# Altium footprint library SamacSys.PcbLib: 27 footprints (part 1 of 2)
Each footprint in its own frame and in the unit in brackets; x right, y up, seen from the top. Pads: shape width x height; smd on the part's side, far side on the other; paste and mask are expansions set on the pad; w line width, h text height; cw(c..) or ccw(c..) is an arc to the next point about the centre after c.
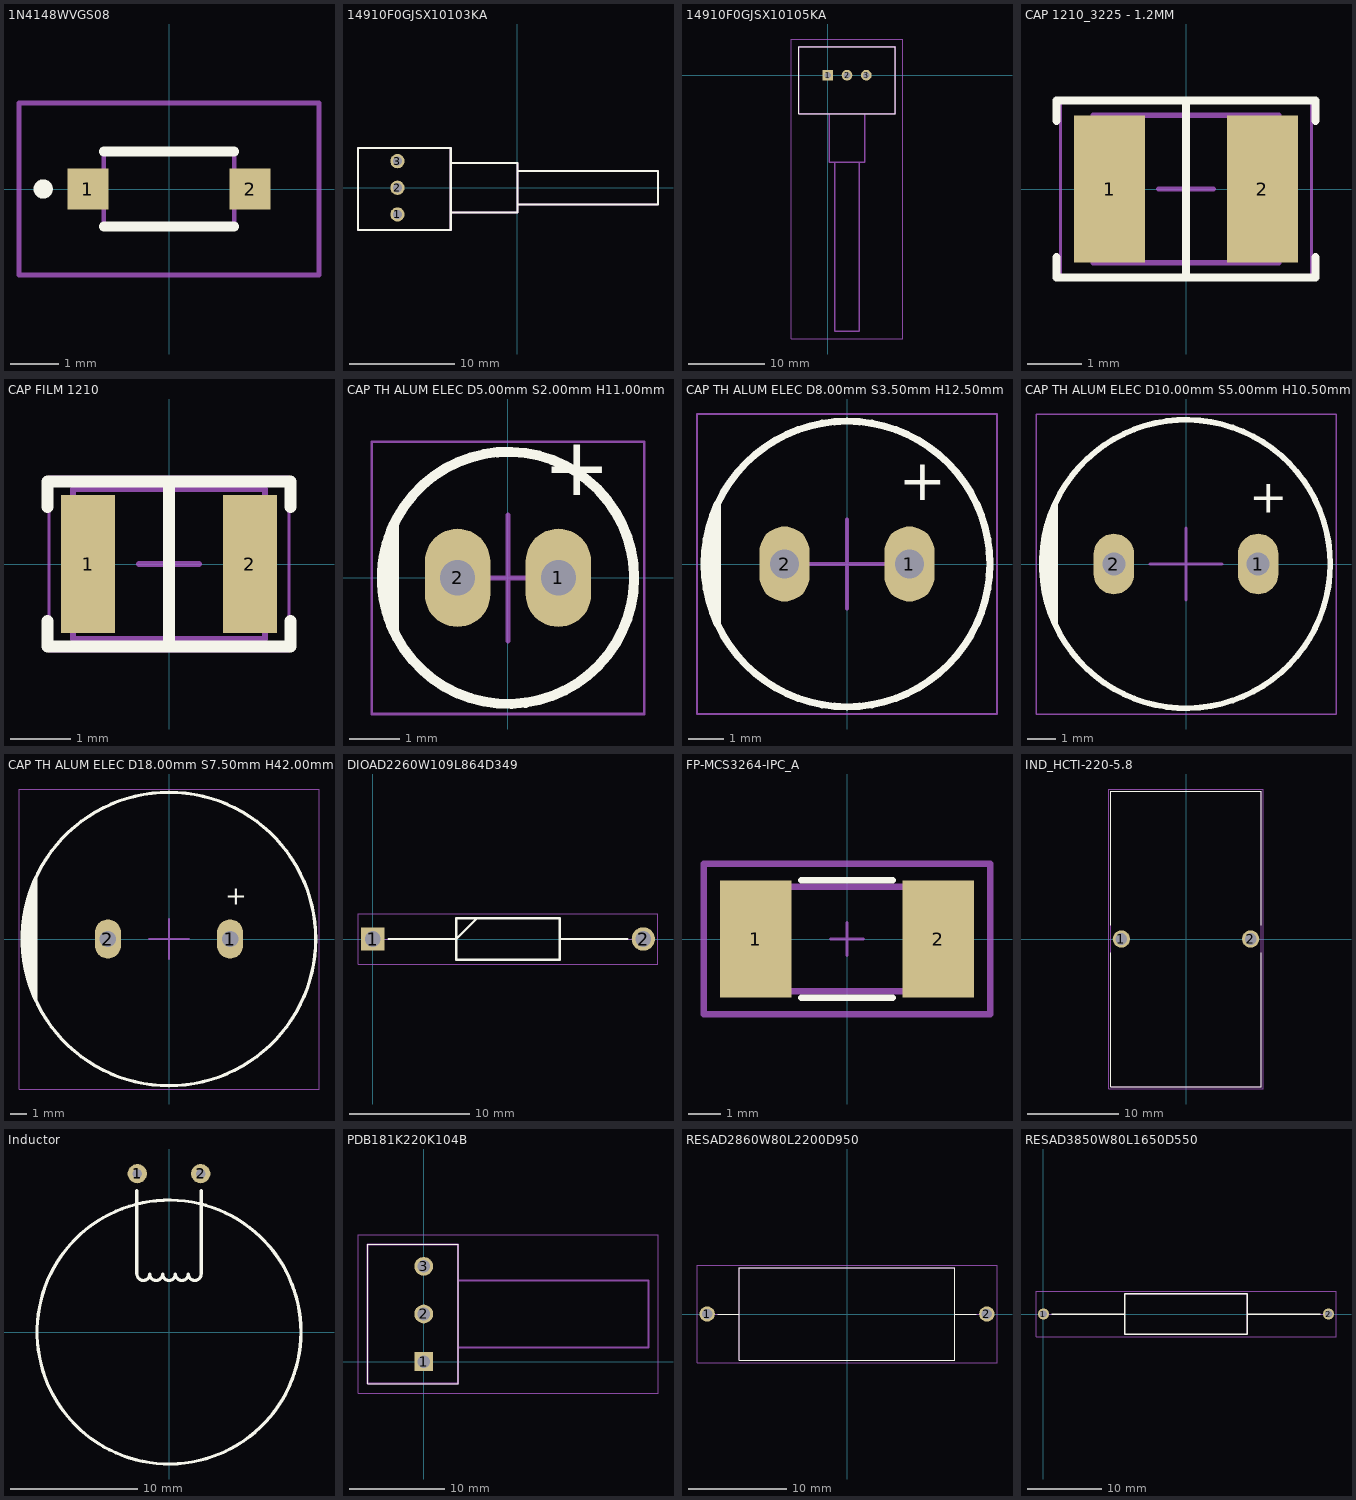
[diagram p0: the footprints below, top view; thin cyan lines are the x and y axes]

## 1N4148WVGS08 [mm]
pads (2):
  rect 0.85x0.85 smd: 1(-1.675,0) 2(1.675,0)
Top Overlay:
  lines w0.2: -1.35,-0.775 1.35,-0.775 ; -1.35,0.775 1.35,0.775 ; -2.6,-0.1 cw(c-2.6,0) -2.6,0.1 cw(c-2.6,0) -2.6,-0.1
Mechanical 13:
  lines w0.1: -1.35,-0.775 1.35,-0.775 1.35,0.775 -1.35,0.775 -1.35,-0.775
Mechanical 15:
  lines w0.1: -3.1,-1.775 3.1,-1.775 3.1,1.775 -3.1,1.775 -3.1,-1.775
3D body "1N4148W-V-GS08.stp": height 1.26, standoff 0, extent -1.854,-0.775 1.854,0.775

## 14910F0GJSX10103KA [mm]
pads (3):
  round 1.37 hole 0.87: 1(-11.42,-2.54) 2(-11.42,0) 3(-11.42,2.54)
Top Overlay:
  lines w0.2: -6.35,-2.35 0,-2.35 0,2.35 -6.35,2.35 ; 0,-1.585 13.395,-1.585 13.395,1.585 0,1.585 ; -15.18,-4.018 -6.35,-4.018 -6.35,3.786 -15.18,3.786 -15.18,-4.018
Mechanical 13:
  lines w0.2: -6.35,-2.35 0,-2.35 0,2.35 -6.35,2.35 ; 0,-1.585 13.395,-1.585 13.395,1.585 0,1.585 ; -15.18,-4.018 -15.18,3.786 -6.35,3.786 -6.35,-4.018 -15.18,-4.018
3D body "14910A0BHSX10502KA.stp": height 13.14, standoff -8.81, extent -15.182,-6.26 9.698,6.24

## 14910F0GJSX10105KA [mm]
pads (3):
  rect 1.414x1.414 hole 0.87: 1(0,0)
  round 1.414 hole 0.87: 2(2.54,0) 3(5.08,0)
Top Overlay:
  lines w0.1: -3.81,-5.07 8.89,-5.07 8.89,3.76 -3.81,3.76 -3.81,-5.07
Mechanical 13:
  lines w0.2: 0.19,-5.07 0.19,-11.42 4.89,-11.42 4.89,-5.07 ; 0.955,-11.42 0.955,-33.645 4.125,-33.645 4.125,-11.42 ; -3.81,-5.07 8.89,-5.07 8.89,3.76 -3.81,3.76 -3.81,-5.07
Mechanical 15:
  lines w0.1: -4.81,-34.645 9.89,-34.645 9.89,4.76 -4.81,4.76 -4.81,-34.645
3D body "14910F0GJSX10104KA.stp": height 13.2, standoff -8.55, extent -3.85,-20.906 8.93,3.794

## CAP 1210_3225 - 1.2MM [mm] "Chip Capacitor, 2-Leads, Body 3.20x2.50mm, IPC Medium Density"
height 1.2
pads (2):
  rect 1.3x2.7 smd: 1(-1.4,0) 2(1.4,0)
Top Overlay:
  lines w0.15: -2.375,-1.25 -2.375,-1.625 2.375,-1.625 2.375,-1.25 ; -2.375,1.25 -2.375,1.625 2.375,1.625 2.375,1.25 ; 0,-1.625 0,1.625
Mechanical 13:
  lines w0.1: -1.7,-1.35 1.7,-1.35 1.7,1.35 -1.7,1.35 -1.7,-1.35
Mechanical 15:
  lines w0.05: -2.3,-1.6 2.3,-1.6 2.3,1.6 -2.3,1.6 -2.3,-1.6
  lines w0.1: -0.5,0 0.5,0 ; 0,-0.5 0,0.5
3D body "CAP 1210-1.2mm.STEP": height 1.2, standoff 0, extent -1.6,-1.25 1.6,1.25

## CAP FILM 1210 [mm] "G2, Film Capacitor PPS, 2-Leads, Body 3.20x2.50mm, IPC Medium Density"
height 1.4
pads (2):
  rect 0.9x2.3 smd: 1(-1.35,0) 2(1.35,0)
Top Overlay:
  lines w0.2: -2.025,-0.95 -2.025,-1.375 2.025,-1.375 2.025,-0.95 ; -2.025,0.95 -2.025,1.375 2.025,1.375 2.025,0.95 ; 0,-1.375 0,1.375
Mechanical 13:
  lines w0.1: -1.6,-1.25 1.6,-1.25 1.6,1.25 -1.6,1.25 -1.6,-1.25
Mechanical 15:
  lines w0.05: -2,-1.45 2,-1.45 2,1.45 -2,1.45 -2,-1.45
  lines w0.1: -0.5,0 0.5,0 ; 0,-0.5 0,0.5
3D body "CAP FILM - 1210-1.6mm.step": height 1.6, standoff 0, extent -1.6,-1.25 1.6,1.25

## CAP TH ALUM ELEC D5.00mm S2.00mm H11.00mm [mm] "5mm Diameter 2mm Lead Spacing Aluminum Electrolytic Capacitors Radial, Can"
height 11
pads (2):
  oval 1.3x1.95 hole 0.7: 1(1,0) 2(-1,0)
Top Overlay:
  circle w0.2: c0,0 r2.5
  region: -2.266,-1.057 -2.323,-0.933 -2.411,-0.674 -2.47,-0.408 -2.5,-0.136 -2.5,0.136 -2.47,0.408 -2.411,0.674 -2.323,0.933 -2.266,1.057
  lines w0.2: -2.266,-1.057 cw(c0,0) -2.266,1.057 -2.266,-1.057
  text "+" at 0.7,1.25 h2
Mechanical 13:
  circle w0.1: c0,0 r2.5
  lines w0.1: -2.266,-1.057 -2.266,1.057
Mechanical 15:
  lines w0.05: -2.7,-2.7 -2.7,2.7 2.7,2.7 2.7,-2.7 -2.7,-2.7
  lines w0.1: -1.25,0 0,0 ; 0,-1.25 0,0 ; 0,1.25 0,0 ; 1.25,0 0,0
3D body "Cap TH D5.00mm H11.00mm L2.00mm.step": height 11, standoff -2.5, extent -2.509,-2.498 2.5,2.498

## CAP TH ALUM ELEC D8.00mm S3.50mm H12.50mm [mm] "8mm Diameter 3.5mm Lead Spacing Aluminum Electrolytic Capacitors Radial, Can"
height 12.5
pads (2):
  oval 1.4x2.1 hole 0.8: 1(1.75,0) 2(-1.75,0)
Top Overlay:
  circle w0.2: c0,0 r4
  region: -3.625,-1.69 -3.718,-1.493 -3.858,-1.079 -3.952,-0.653 -4,-0.218 -4,0.218 -3.952,0.653 -3.858,1.079 -3.718,1.493 -3.625,1.69
  lines w0.2: -3.625,-1.69 cw(c0,0) -3.625,1.69 -3.625,-1.69
  text "+" at 1.45,1.4 h2
Mechanical 13:
  circle w0.1: c0,0 r4
  lines w0.1: -3.625,-1.69 -3.625,1.69
Mechanical 15:
  lines w0.05: -4.2,-4.2 -4.2,4.2 4.2,4.2 4.2,-4.2 -4.2,-4.2
  lines w0.1: -1.25,0 0,0 ; 0,-1.25 0,0 ; 0,1.25 0,0 ; 1.25,0 0,0
3D body "Cap TH D8.00mm H12.50mm L3.50mm.step": height 12.5, standoff -2.5, extent -4.008,-3.999 4,3.999

## CAP TH ALUM ELEC D10.00mm S5.00mm H10.50mm [mm] "10mm Diameter 5mm Lead Spacing Aluminum Electrolytic Capacitors Radial, Can"
height 10.5
pads (2):
  oval 1.4x2.1 hole 0.8: 1(2.5,0) 2(-2.5,0)
Top Overlay:
  circle w0.2: c0,0 r5
  region: -4.532,-2.113 -4.647,-1.866 -4.822,-1.349 -4.941,-0.816 -5,-0.273 -5,0.273 -4.941,0.816 -4.822,1.349 -4.647,1.866 -4.532,2.113
  lines w0.2: -4.532,-2.113 cw(c0,0) -4.532,2.113 -4.532,-2.113
  text "+" at 2.2,1.4 h2
Mechanical 13:
  circle w0.1: c0,0 r5
  lines w0.1: -4.532,-2.113 -4.532,2.113
Mechanical 15:
  lines w0.05: -5.2,-5.2 -5.2,5.2 5.2,5.2 5.2,-5.2 -5.2,-5.2
  lines w0.1: -1.25,0 0,0 ; 0,-1.25 0,0 ; 0,1.25 0,0 ; 1.25,0 0,0
3D body "Cap TH D10.00mm H10.50mm L5.00mm.step": height 10.5, standoff -2.5, extent -5.007,-5 5,5

## CAP TH ALUM ELEC D18.00mm S7.50mm H42.00mm [mm] "18mm Diameter 7.5mm Lead Spacing Aluminum Electrolytic Capacitors Radial, Can"
height 42
pads (2):
  oval 1.6x2.4 hole 1: 1(3.75,0) 2(-3.75,0)
Top Overlay:
  circle w0.2: c0,0 r9
  region: -8.157,-3.804 -8.295,-3.507 -8.528,-2.895 -8.716,-2.268 -8.858,-1.628 -8.952,-0.98 -9,-0.327 -9,0.327 -8.952,0.98 -8.858,1.628 -8.716,2.268 -8.528,2.895 -8.295,3.507 -8.157,3.804
  lines w0.2: -8.157,-3.804 cw(c0,0) -8.157,3.804 -8.157,-3.804
  text "+" at 3.45,1.7 h2
Mechanical 13:
  circle w0.1: c0,0 r9
  lines w0.1: -8.157,-3.804 -8.157,3.804
Mechanical 15:
  lines w0.05: -9.2,-9.2 -9.2,9.2 9.2,9.2 9.2,-9.2 -9.2,-9.2
  lines w0.1: -1.25,0 0,0 ; 0,-1.25 0,0 ; 0,1.25 0,0 ; 1.25,0 0,0
3D body "Cap TH D18.00mm H42.00mm L7.50mm.step": height 42, standoff -2.5, extent -9.005,-9 9,9

## DIOAD2260W109L864D349 [mm]
pads (2):
  rect 1.95x1.95 hole 1.3: 1(0,0)
  round 1.95 hole 1.3: 2(22.6,0)
Top Overlay:
  lines w0.2: 1.325,0 6.982,0 8.728,1.745 ; 15.618,0 21.275,0 ; 6.982,-1.745 6.982,1.745 15.618,1.745 15.618,-1.745 6.982,-1.745
Mechanical 13:
  lines w0.1: 0,0 6.982,0 8.727,1.745 ; 15.618,0 22.6,0 ; 6.982,-1.745 6.982,1.745 15.617,1.745 15.617,-1.745 6.982,-1.745
Mechanical 15:
  lines w0.05: -1.225,-2.095 -1.225,2.095 23.825,2.095 23.825,-2.095 -1.225,-2.095
3D body "1N5355B.stp": height 3.67, standoff -3.68, extent -0.545,-1.837 23.14,1.837

## FP-MCS3264-IPC_A [mm]
pads (2):
  rect 2.203x3.604 smd paste+0 mask+0: 1(-2.8,0) 2(2.8,0)
Top Overlay:
  lines w0.2: -1.399,-1.802 1.399,-1.802 ; -1.399,1.802 1.399,1.802
Top Courtyard:
  lines w0.2: -4.402,-2.302 -4.402,2.302 4.402,2.302 4.402,-2.302 -4.402,-2.302
Top 3D Body:
  lines w0.2: -3.2,-1.6 -3.2,1.6 3.2,1.6 3.2,-1.6 -3.2,-1.6
Top Assembly:
  lines w0.2: -4.402,-2.302 -4.402,2.302 4.402,2.302 4.402,-2.302 -4.402,-2.302
  text ".Designator" at 0,0.188 h1
Top Component Center:
  lines w0.1: -0.5,0 0.5,0 ; 0,-0.5 0,0.5
3D body "Res_Ohmite_MCS3264R010FER_eec.STEP": height 0.25, standoff 0, extent -4.402,-2.302 4.402,2.302

## IND_HCTI-220-5.8 [mil]
pads (2):
  round 75 hole 50: 1(-280,0) 2(280,0)
Top Overlay:
  lines w5: -325,-60 -325,-640 325,-640 325,-60 ; -325,60 -325,640 325,640 325,60
Mechanical 13:
  lines w5: -325,-640 -325,640 325,640 325,-640 -325,-640
Mechanical 15:
  lines w1.97: -334.84,-649.84 -334.84,649.84 334.84,649.84 334.84,-649.84 -334.84,-649.84
3D body "HCTI-68-7.7.STEP": height 1362.5, standoff -380, extent -325,-638.25 325,638.25

## Inductor [mil]
pads (2):
  round 60 hole 30: 1(-98.43,492.13) 2(98.43,492.13)
Top Overlay:
  circle w10: c0,0 r410
  lines w10: -100,180 -100,440 ; -99.37,180 ccw(c-79.69,180) -60,180 ; -59.69,180 ccw(c-40,180) -20.32,180 ; -19.68,180 ccw(c0,180) 19.68,180 ; 20.32,180 ccw(c40,180) 59.69,180 ; 60.31,180 ccw(c80,180) 99.69,180 ; 100,180 100,440
3D body "74270118.stp": height 255.91, standoff 19.69, extent -416.85,-417.32 416.85,417.32

## PDB181K220K104B [mm]
pads (3):
  rect 1.98x1.98 hole 1.32: 1(0,0)
  round 1.98 hole 1.32: 2(0,5) 3(0,10)
Top Overlay:
  lines w0.1: -5.9,-2.3 -5.9,12.3 -1.4,12.3 3.6,12.3 3.6,-2.3 -1.4,-2.3 -5.9,-2.3
Mechanical 13:
  lines w0.2: 3.6,1.5 23.6,1.5 23.6,8.5 3.6,8.5 ; -5.9,-2.3 3.6,-2.3 3.6,12.3 -5.9,12.3 -5.9,-2.3
Mechanical 15:
  lines w0.1: -6.9,-3.3 24.6,-3.3 24.6,13.3 -6.9,13.3 -6.9,-3.3
3D body "PDB181-K420K-105A2.stp": height 21.2, standoff -3.8, extent -5.58,-3.5 18.92,13.494

## RESAD2860W80L2200D950 [mm]
height 10
pads (2):
  round 1.575 hole 1.05: 1(-14.3,0) 2(14.3,0)
Top Overlay:
  lines w0.127: -13.193,0 -11,0 ; 13.193,0 11,0 ; -11,0 -11,-4.75 11,-4.75 11,0 ; -11,0 -11,4.75 11,4.75 11,0
Mechanical 13:
  lines w0.127: -14.3,0 -11,0 ; 14.3,0 11,0 ; -11,0 -11,-4.75 11,-4.75 11,0 ; -11,0 -11,4.75 11,4.75 11,0
Mechanical 15:
  lines w0.05: -15.338,-5 -15.338,5 15.338,5 15.338,-5 -15.338,-5
3D body "step_temp.STEP": height 10, standoff -27.22, extent -14.7,-4.75 14.7,4.75

## RESAD3850W80L1650D550 [mm]
pads (2):
  round 1.5 hole 1: 1(0,0) 2(38.5,0)
Top Overlay:
  lines w0.2: 1.1,0 11,0 ; 27.5,0 37.4,0 ; 11,-2.75 11,2.75 27.5,2.75 27.5,-2.75 11,-2.75
Mechanical 13:
  lines w0.1: 0,0 11,0 ; 27.5,0 38.5,0 ; 11,-2.75 11,2.75 27.5,2.75 27.5,-2.75 11,-2.75
Mechanical 15:
  lines w0.05: -1,-3.1 -1,3.1 39.5,3.1 39.5,-3.1 -1,-3.1
3D body "CCR110KKB.stp": height 6.5, standoff -6.5, extent -0.4,-3.25 38.9,3.25